# Altium schematic symbol library CPU_NXP_IMX.SchLib: 18 symbols (part 5 of 5)
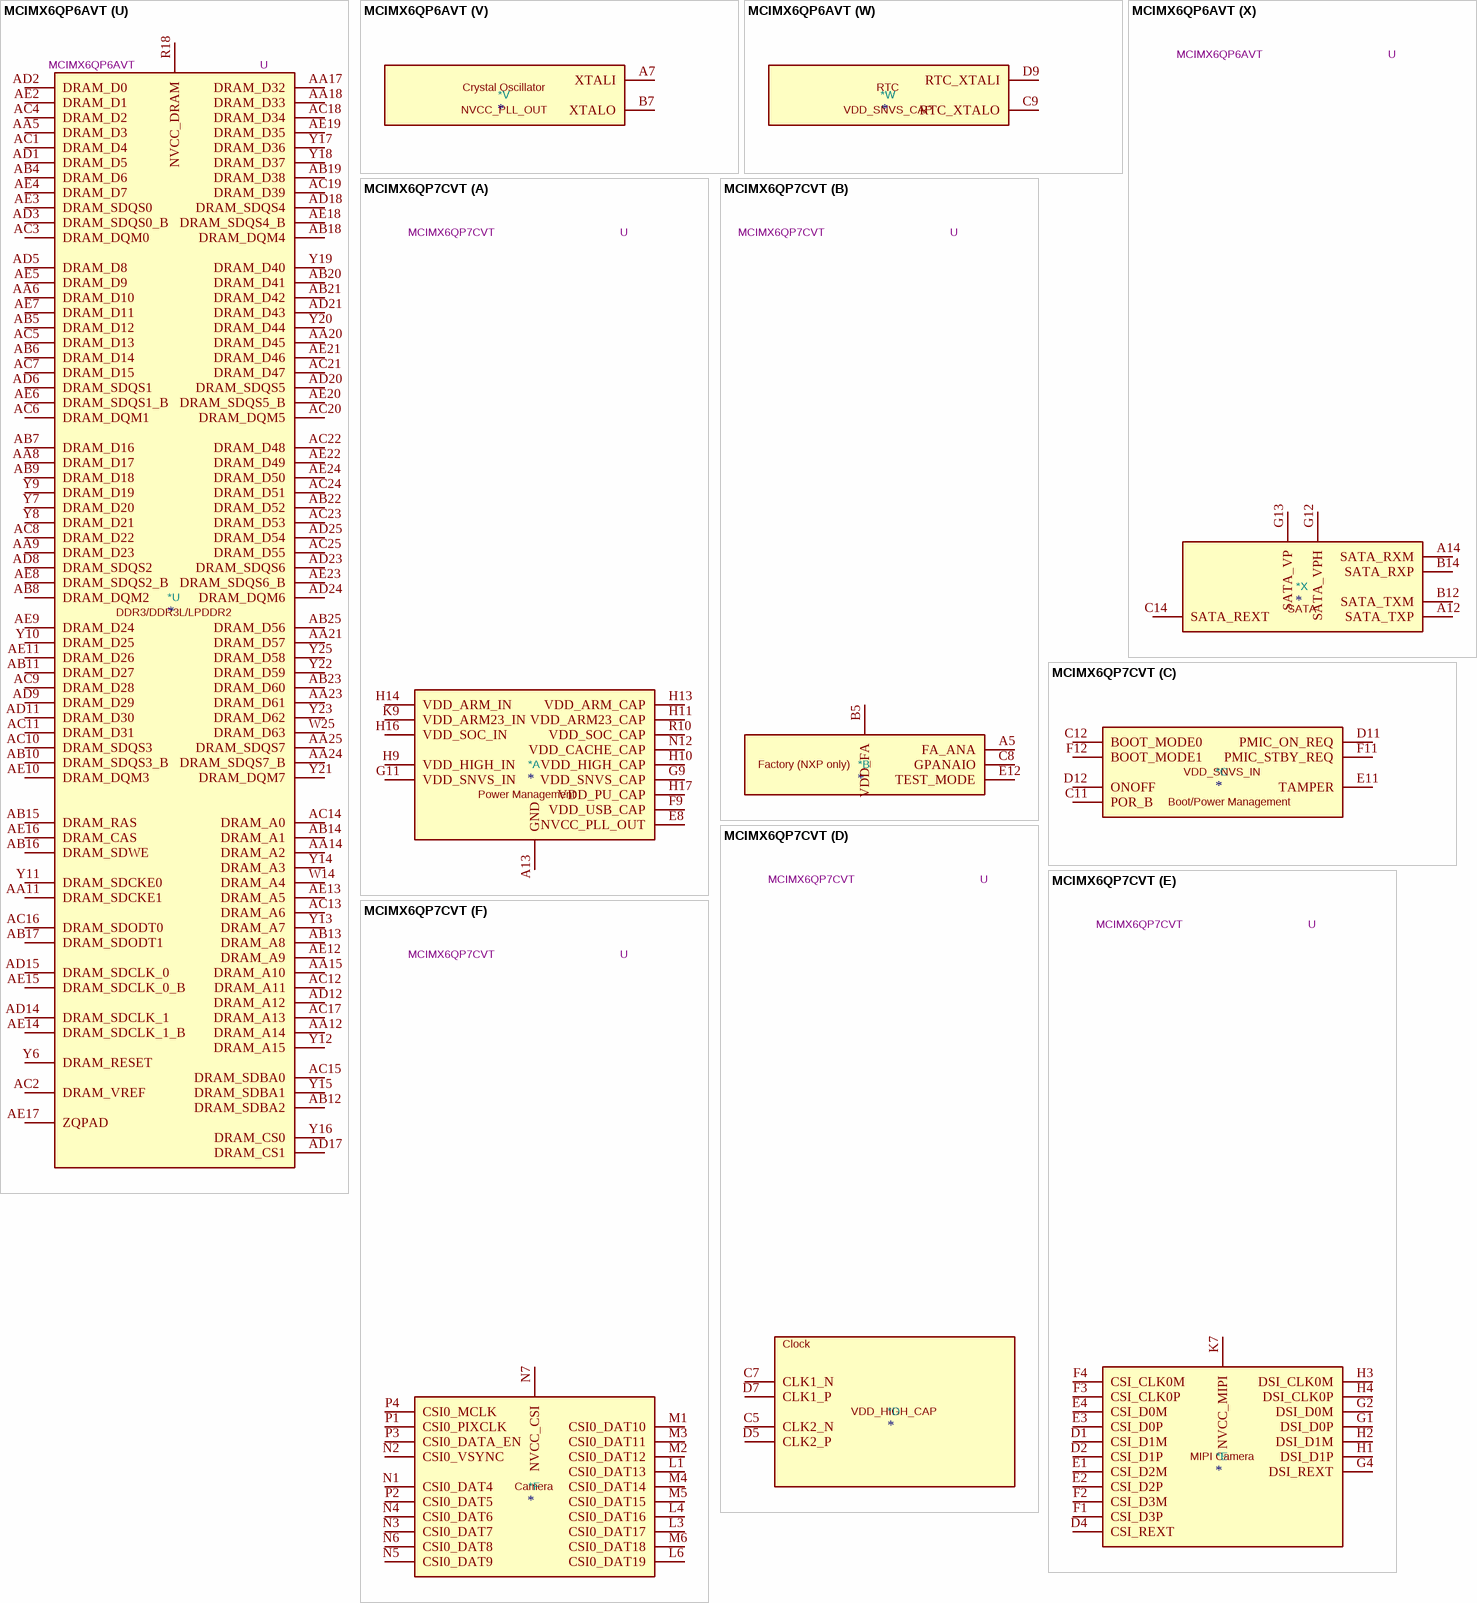
[diagram p58: symbols MCIMX6QP6AVT to MCIMX6QP7CVT]

## MCIMX6QP6AVT
designator *  value MCIMX6QP6AVT  Reference: U
ki_keywords: Quad-Core ARM Cortex A9 SOC Automotive; ki_description: i.MX 6QuadPlus Automotive and Infotainment Application Processor, BGA-624; ki_fp_filters: BGA*21.0x21.0mm*P0.8mm*; Footprint: Package_BGA:BGA-624_21.0x21.0mm_Layout25x25_P0.8mm; Datasheet: https://www.nxp.com/docs/en/data-sheet/IMX6DQPAEC.pdf
part A pins: A4 GND hidden, A8 GND hidden, A13 GND, A25 GND hidden, AA7 GND hidden, AA10 GND hidden, AA13 GND hidden, AA16 GND hidden, AA19 GND hidden, AA22 GND hidden, AB3 GND hidden, AB24 GND hidden, AD4 GND hidden, AD7 GND hidden, AD10 GND hidden, AD13 GND hidden, AD16 GND hidden, AD19 GND hidden, AD22 GND hidden, AE1 GND hidden, AE25 GND hidden, B4 GND hidden, C1 GND hidden, C4 GND hidden, C6 GND hidden, C10 GND hidden, D3 GND hidden, D6 GND hidden, D8 GND hidden, E5 GND hidden, E6 GND hidden, E7 GND hidden, E8 NVCC_PLL_OUT, F5 GND hidden, F6 GND hidden, F7 GND hidden, F8 GND hidden, F9 VDD_USB_CAP, G3 GND hidden, G9 VDD_SNVS_CAP, G10 GND hidden, G11 VDD_SNVS_IN, G19 GND hidden, H8 GND hidden, H9 VDD_HIGH_IN, H10 VDD_HIGH_CAP, H11 VDD_ARM23_CAP, H12 GND hidden, H13 VDD_ARM_CAP, H14 VDD_ARM_IN, H15 GND hidden, H16 VDD_SOC_IN, H17 VDD_PU_CAP, H18 GND hidden, J2 GND hidden, J8 GND hidden, J9 VDD_HIGH_IN hidden, J10 VDD_HIGH_CAP hidden, J11 VDD_ARM23_CAP hidden, J12 GND hidden, J13 VDD_ARM_CAP hidden, J14 VDD_ARM_IN hidden, J15 GND hidden, J16 VDD_SOC_IN hidden, J17 VDD_PU_CAP hidden, J18 GND hidden, K8 GND hidden, K9 VDD_ARM23_IN, K10 GND hidden, K11 VDD_ARM23_CAP hidden, K12 GND hidden, K13 VDD_ARM_CAP hidden, K14 VDD_ARM_IN hidden, K15 GND hidden, K16 VDD_SOC_IN hidden, K17 VDD_PU_CAP hidden, K18 GND hidden, L2 GND hidden, L5 GND hidden, L8 GND hidden, L9 VDD_ARM23_IN hidden, L10 GND hidden, L11 VDD_ARM23_CAP hidden, L12 GND hidden, L13 VDD_ARM_CAP hidden, L14 VDD_ARM_IN hidden, L15 GND hidden, L16 VDD_SOC_IN hidden, L17 VDD_PU_CAP hidden, L18 GND hidden, M8 GND hidden, M9 VDD_ARM23_IN hidden, M10 GND hidden, M11 VDD_ARM23_CAP hidden, M12 GND hidden, M13 VDD_ARM_CAP hidden, M14 VDD_ARM_IN hidden, M15 GND hidden, M16 VDD_SOC_IN hidden, M17 VDD_PU_CAP hidden, M18 GND hidden, N8 GND hidden, N9 VDD_ARM23_IN hidden, N10 GND hidden, N11 VDD_ARM23_CAP hidden, N12 VDD_CACHE_CAP, N13 VDD_ARM_CAP hidden, N14 VDD_ARM_IN hidden, N15 GND hidden, N16 VDD_SOC_IN hidden, N17 VDD_PU_CAP hidden, N18 GND hidden, P8 GND hidden, P9 VDD_ARM23_IN hidden, P10 GND hidden, P11 VDD_ARM23_CAP hidden, P12 GND hidden, P13 VDD_ARM_CAP hidden, P14 VDD_ARM_IN hidden, P15 GND hidden, P16 VDD_SOC_IN hidden, P17 VDD_PU_CAP hidden, P18 GND hidden, R8 GND hidden, R9 VDD_ARM23_IN hidden, R10 VDD_SOC_CAP, R11 VDD_ARM23_CAP hidden, R12 GND hidden, R13 VDD_ARM_CAP hidden, R14 VDD_ARM_IN hidden, R15 GND hidden, R16 VDD_SOC_IN hidden, R17 GND hidden, T8 GND hidden, T9 VDD_ARM23_IN hidden, T10 VDD_SOC_CAP hidden, T11 GND hidden, T12 GND hidden, T13 VDD_SOC_CAP hidden, T14 VDD_SOC_CAP hidden, T15 GND hidden, T16 VDD_SOC_IN hidden, T17 GND hidden, T19 GND hidden, U8 GND hidden, U9 VDD_ARM23_IN hidden, U10 VDD_SOC_CAP hidden, U11 GND hidden, U12 GND hidden, U13 VDD_SOC_CAP hidden, U14 VDD_SOC_CAP hidden, U15 GND hidden, U16 VDD_SOC_IN hidden, U17 GND hidden, U19 GND hidden, V8 GND hidden, V19 GND hidden, W3 GND hidden, W7 GND hidden, W8 GND hidden, W9 GND hidden, W10 GND hidden, W11 GND hidden, W12 GND hidden, W13 GND hidden, W15 GND hidden, W16 GND hidden, W17 GND hidden, W18 GND hidden, W19 GND hidden, Y5 GND hidden, Y24 GND hidden
part B pins: A5 FA_ANA, B5 VDD_FA, C8 GPANAIO, E12 TEST_MODE
part C pins: C11 POR_B, C12 BOOT_MODE0, D11 PMIC_ON_REQ, D12 ONOFF, E11 TAMPER, F11 PMIC_STBY_REQ, F12 BOOT_MODE1
part D pins: A9 MLB_SN, A10 MLB_DP, A11 MLB_CN, B9 MLB_SP, B10 MLB_DN, B11 MLB_CP, C5 CLK2_N, C7 CLK1_N, D5 CLK2_P, D7 CLK1_P
part E pins: D1 CSI_D1M, D2 CSI_D1P, D4 CSI_REXT, E1 CSI_D2M, E2 CSI_D2P, E3 CSI_D0P, E4 CSI_D0M, F1 CSI_D3P, F2 CSI_D3M, F3 CSI_CLK0P, F4 CSI_CLK0M, G1 DSI_D0P, G2 DSI_D0M, G4 DSI_REXT, H1 DSI_D1P, H2 DSI_D1M, H3 DSI_CLK0M, H4 DSI_CLK0P, K7 NVCC_MIPI
part F pins: L1 CSI0_DAT13, L3 CSI0_DAT17, L4 CSI0_DAT16, L6 CSI0_DAT19, M1 CSI0_DAT10, M2 CSI0_DAT12, M3 CSI0_DAT11, M4 CSI0_DAT14, M5 CSI0_DAT15, M6 CSI0_DAT18, N1 CSI0_DAT4, N2 CSI0_VSYNC, N3 CSI0_DAT7, N4 CSI0_DAT6, N5 CSI0_DAT9, N6 CSI0_DAT8, N7 NVCC_CSI, P1 CSI0_PIXCLK, P2 CSI0_DAT5, P3 CSI0_DATA_EN, P4 CSI0_MCLK
part G pins: N19 DI0_DISP_CLK, N20 DI0_PIN3, N21 DI0_PIN15, N25 DI0_PIN2, P19 NVCC_LCD, P20 DISP0_DAT4, P21 DISP0_DAT3, P22 DISP0_DAT1, P23 DISP0_DAT2, P24 DISP0_DAT0, P25 DI0_PIN4, R20 DISP0_DAT13, R21 DISP0_DAT10, R22 DISP0_DAT8, R23 DISP0_DAT6, R24 DISP0_DAT7, R25 DISP0_DAT5, T20 DISP0_DAT21, T21 DISP0_DAT16, T22 DISP0_DAT15, T23 DISP0_DAT11, T24 DISP0_DAT12, T25 DISP0_DAT9, U22 DISP0_DAT20, U23 DISP0_DAT19, U24 DISP0_DAT17, U25 DISP0_DAT14, V24 DISP0_DAT22, V25 DISP0_DAT18, W24 DISP0_DAT23
part H pins: C25 EIM_D16, D24 EIM_D18, D25 EIM_D23, E22 EIM_EB2, E23 EIM_D22, E24 EIM_D26, E25 EIM_D27, F21 EIM_D17, F22 EIM_D24, F23 EIM_EB3, F24 EIM_A22, F25 EIM_A24, G20 EIM_D20, G21 EIM_D19, G22 EIM_D25, G23 EIM_D28, G24 EIM_A17, G25 EIM_A19, H19 EIM_A25, H20 EIM_D21, H21 EIM_D31, H22 EIM_A20, H23 EIM_A21, H24 EIM_CS0, H25 EIM_A16, J19 EIM_D29, J20 EIM_D30, J21 EIM_A23, J22 EIM_A18, J23 EIM_CS1, J24 EIM_OE, J25 EIM_DA1, K19 NVCC_EIM0, K20 EIM_RW, K21 EIM_EB0, K22 EIM_LBA, K23 EIM_EB1, K24 EIM_DA3, K25 EIM_DA6, L19 NVCC_EIM1, L20 EIM_DA0, L21 EIM_DA2, L22 EIM_DA4, L23 EIM_DA5, L24 EIM_DA8, L25 EIM_DA7, M19 NVCC_EIM2, M20 EIM_DA11, M21 EIM_DA9, M22 EIM_DA10, M23 EIM_DA13, M24 EIM_DA12, M25 EIM_WAIT, N22 EIM_BCLK, N23 EIM_DA14, N24 EIM_DA15
part I pins: R19 NVCC_ENET, U20 ENET_TXD0, U21 ENET_CRS_DV, V20 ENET_MDC, V21 ENET_TX_EN, V22 ENET_REF_CLK, V23 ENET_MDIO, W20 ENET_TXD1, W21 ENET_RXD0, W22 ENET_RXD1, W23 ENET_RX_ER
part J pins: P5 GPIO_19, P6 GPIO_18, P7 NVCC_GPIO, R1 GPIO_17, R2 GPIO_16, R3 GPIO_7, R4 GPIO_5, R5 GPIO_8, R6 GPIO_4, R7 GPIO_3, T1 GPIO_2, T2 GPIO_9, T3 GPIO_6, T4 GPIO_1, T5 GPIO_0, T6 KEY_COL4, T7 KEY_ROW3, U5 KEY_COL3, U6 KEY_ROW1, U7 KEY_COL1, V5 KEY_ROW4, V6 KEY_ROW0, W4 KEY_ROW2, W5 KEY_COL0, W6 KEY_COL2
part K pins: J1 HDMI_REF, J3 HDMI_D1M, J4 HDMI_D1P, J5 HDMI_CLKM, J6 HDMI_CLKP, K1 HDMI_HPD, K2 HDMI_DDCCEC, K3 HDMI_D2M, K4 HDMI_D2P, K5 HDMI_D0M, K6 HDMI_D0P, L7 HDMI_VP, M7 HDMI_VPH
part L pins: C2 JTAG_TRSTB, C3 JTAG_TMS, G5 JTAG_TDI, G6 JTAG_TDO, H5 JTAG_TCK, H6 JTAG_MOD, J7 NVCC_JTAG
part M pins: AA1 LVDS1_TX1_P, AA2 LVDS1_TX1_N, AA3 LVDS1_TX3_N, AA4 LVDS1_TX3_P, AB1 LVDS1_TX2_N, AB2 LVDS1_TX2_P, U1 LVDS0_TX0_P, U2 LVDS0_TX0_N, U3 LVDS0_TX1_P, U4 LVDS0_TX1_N, V1 LVDS0_TX2_P, V2 LVDS0_TX2_N, V3 LVDS0_CLK_P, V4 LVDS0_CLK_N, V7 NVCC_LVDS2P5, W1 LVDS0_TX3_P, W2 LVDS0_TX3_N, Y1 LVDS1_TX0_N, Y2 LVDS1_TX0_P, Y3 LVDS1_CLK_N, Y4 LVDS1_CLK_P
part N pins: A16 NANDF_ALE, A17 NANDF_CS2, A18 NANDF_D0, A19 NANDF_D4, A20 SD4_DAT3, B16 NANDF_RB0, B17 SD4_CMD, B18 NANDF_D5, B19 SD4_DAT1, B20 SD4_DAT6, C15 NANDF_CLE, C16 NANDF_CS1, C17 NANDF_D1, C18 NANDF_D7, C19 SD4_DAT5, D16 NANDF_CS3, D17 NANDF_D3, D18 SD4_DAT0, D19 SD4_DAT7, E15 NANDF_WP_B, E16 SD4_CLK, E17 NANDF_D6, E18 SD4_DAT4, F15 NANDF_CS0, F16 NANDF_D2, F17 SD4_DAT2, G15 NVCC_NANDF
part O pins: A2 PCIE_REXT, A3 PCIE_TXM, B1 PCIE_RXM, B2 PCIE_RXP, B3 PCIE_TXP, G7 PCIE_VPH, G8 PCIE_VPTX, H7 PCIE_VP
part P pins: A6 USB_OTG_DP, B6 USB_OTG_DN, B8 USB_OTG_CHD_B, D10 USB_H1_VBUS, E9 USB_OTG_VBUS, E10 USB_H1_DP, F10 USB_H1_DN
part Q pins: A24 RGMII_TD3, B23 RGMII_RD1, B24 RGMII_RD2, B25 RGMII_RXC, C22 RGMII_TD0, C23 RGMII_TX_CTL, C24 RGMII_RD0, D21 RGMII_TXC, D22 RGMII_RX_CTL, D23 RGMII_RD3, E21 RGMII_TD2, F20 RGMII_TD1, G18 NVCC_RGMII
part R pins: A21 SD1_DAT0, B21 SD1_CMD, C20 SD1_DAT1, D20 SD1_CLK, E19 SD1_DAT2, F18 SD1_DAT3, G16 NVCC_SD1
part S pins: A22 SD2_DAT0, A23 SD2_DAT2, B22 SD2_DAT3, C21 SD2_CLK, E20 SD2_DAT1, F19 SD2_CMD, G17 NVCC_SD2
part T pins: A15 SD3_DAT2, B13 SD3_CMD, B15 SD3_DAT3, C13 SD3_DAT5, D13 SD3_DAT4, D14 SD3_CLK, D15 SD3_RST, E13 SD3_DAT6, E14 SD3_DAT0, F13 SD3_DAT7, F14 SD3_DAT1, G14 NVCC_SD3
part U pins: AA5 DRAM_D3, AA6 DRAM_D10, AA8 DRAM_D17, AA9 DRAM_D23, AA11 DRAM_SDCKE1, AA12 DRAM_A14, AA14 DRAM_A2, AA15 DRAM_A10, AA17 DRAM_D32, AA18 DRAM_D33, AA20 DRAM_D45, AA21 DRAM_D57, AA23 DRAM_D61, AA24 DRAM_SDQS7_B, AA25 DRAM_SDQS7, AB4 DRAM_D6, AB5 DRAM_D12, AB6 DRAM_D14, AB7 DRAM_D16, AB8 DRAM_DQM2, AB9 DRAM_D18, AB10 DRAM_SDQS3_B, AB11 DRAM_D27, AB12 DRAM_SDBA2, AB13 DRAM_A8, AB14 DRAM_A1, AB15 DRAM_RAS, AB16 DRAM_SDWE, AB17 DRAM_SDODT1, AB18 DRAM_DQM4, AB19 DRAM_D38, AB20 DRAM_D41, AB21 DRAM_D42, AB22 DRAM_D52, AB23 DRAM_D60, AB25 DRAM_D56, AC1 DRAM_D4, AC2 DRAM_VREF, AC3 DRAM_DQM0, AC4 DRAM_D2, AC5 DRAM_D13, AC6 DRAM_DQM1, AC7 DRAM_D15, AC8 DRAM_D22, AC9 DRAM_D28, AC10 DRAM_SDQS3, AC11 DRAM_D31, AC12 DRAM_A11, AC13 DRAM_A6, AC14 DRAM_A0, AC15 DRAM_SDBA0, AC16 DRAM_SDODT0, AC17 DRAM_A13, AC18 DRAM_D34, AC19 DRAM_D39, AC20 DRAM_DQM5, AC21 DRAM_D47, AC22 DRAM_D48, AC23 DRAM_D53, AC24 DRAM_D51, AC25 DRAM_D55, AD1 DRAM_D5, AD2 DRAM_D0, AD3 DRAM_SDQS0_B, AD5 DRAM_D8, AD6 DRAM_SDQS1, AD8 DRAM_SDQS2, AD9 DRAM_D29, AD11 DRAM_D30, AD12 DRAM_A12, AD14 DRAM_SDCLK_1, AD15 DRAM_SDCLK_0, AD17 DRAM_CS1, AD18 DRAM_SDQS4, AD20 DRAM_SDQS5, AD21 DRAM_D43, AD23 DRAM_SDQS6, AD24 DRAM_DQM6, AD25 DRAM_D54, AE2 DRAM_D1, AE3 DRAM_SDQS0, AE4 DRAM_D7, AE5 DRAM_D9, AE6 DRAM_SDQS1_B, AE7 DRAM_D11, AE8 DRAM_SDQS2_B, AE9 DRAM_D24, AE10 DRAM_DQM3, AE11 DRAM_D26, AE12 DRAM_A9, AE13 DRAM_A5, AE14 DRAM_SDCLK_1_B, AE15 DRAM_SDCLK_0_B, AE16 DRAM_CAS, AE17 ZQPAD, AE18 DRAM_SDQS4_B, AE19 DRAM_D35, AE20 DRAM_SDQS5_B, AE21 DRAM_D46, AE22 DRAM_D49, AE23 DRAM_SDQS6_B, AE24 DRAM_D50, R18 NVCC_DRAM, T18 NVCC_DRAM hidden, U18 NVCC_DRAM hidden, V9 NVCC_DRAM hidden, V10 NVCC_DRAM hidden, V11 NVCC_DRAM hidden, V12 NVCC_DRAM hidden, V13 NVCC_DRAM hidden, V14 NVCC_DRAM hidden, V15 NVCC_DRAM hidden, V16 NVCC_DRAM hidden, V17 NVCC_DRAM hidden, V18 NVCC_DRAM hidden, W14 DRAM_A4, W25 DRAM_D63, Y6 DRAM_RESET, Y7 DRAM_D20, Y8 DRAM_D21, Y9 DRAM_D19, Y10 DRAM_D25, Y11 DRAM_SDCKE0, Y12 DRAM_A15, Y13 DRAM_A7, Y14 DRAM_A3, Y15 DRAM_SDBA1, Y16 DRAM_CS0, Y17 DRAM_D36, Y18 DRAM_D37, Y19 DRAM_D40, Y20 DRAM_D44, Y21 DRAM_DQM7, Y22 DRAM_D59, Y23 DRAM_D62, Y25 DRAM_D58
part V pins: A7 XTALI, B7 XTALO
part W pins: C9 RTC_XTALO, D9 RTC_XTALI
part X pins: A12 SATA_TXP, A14 SATA_RXM, B12 SATA_TXM, B14 SATA_RXP, C14 SATA_REXT, G12 SATA_VPH, G13 SATA_VP
part A text: Power Management
part B text: Factory (NXP only)
part C text: Boot/Power Management
part D text: Clock; MediaLB
part E text: MIPI Camera
part F text: Camera
part G text: LCD Display
part H text: External memory
part I text: 10/100-Mbit Ethernet
part J text: GPIO
part K text: HDMI Display
part L text: JTAG Debug
part M text: LVDS Display
part N text: NAND Flash; SD/MMC
part O text: PCIe 2.0
part P text: HS USB2.0 Host; HS USB2.0 OTG
part Q text: Gigabit Ethernet
part R text: SD/MMC
part S text: SD/MMC
part T text: SD/MMC
part U text: DDR3/DDR3L/LPDDR2
part V text: Crystal Oscillator
part W text: RTC
part X text: SATA

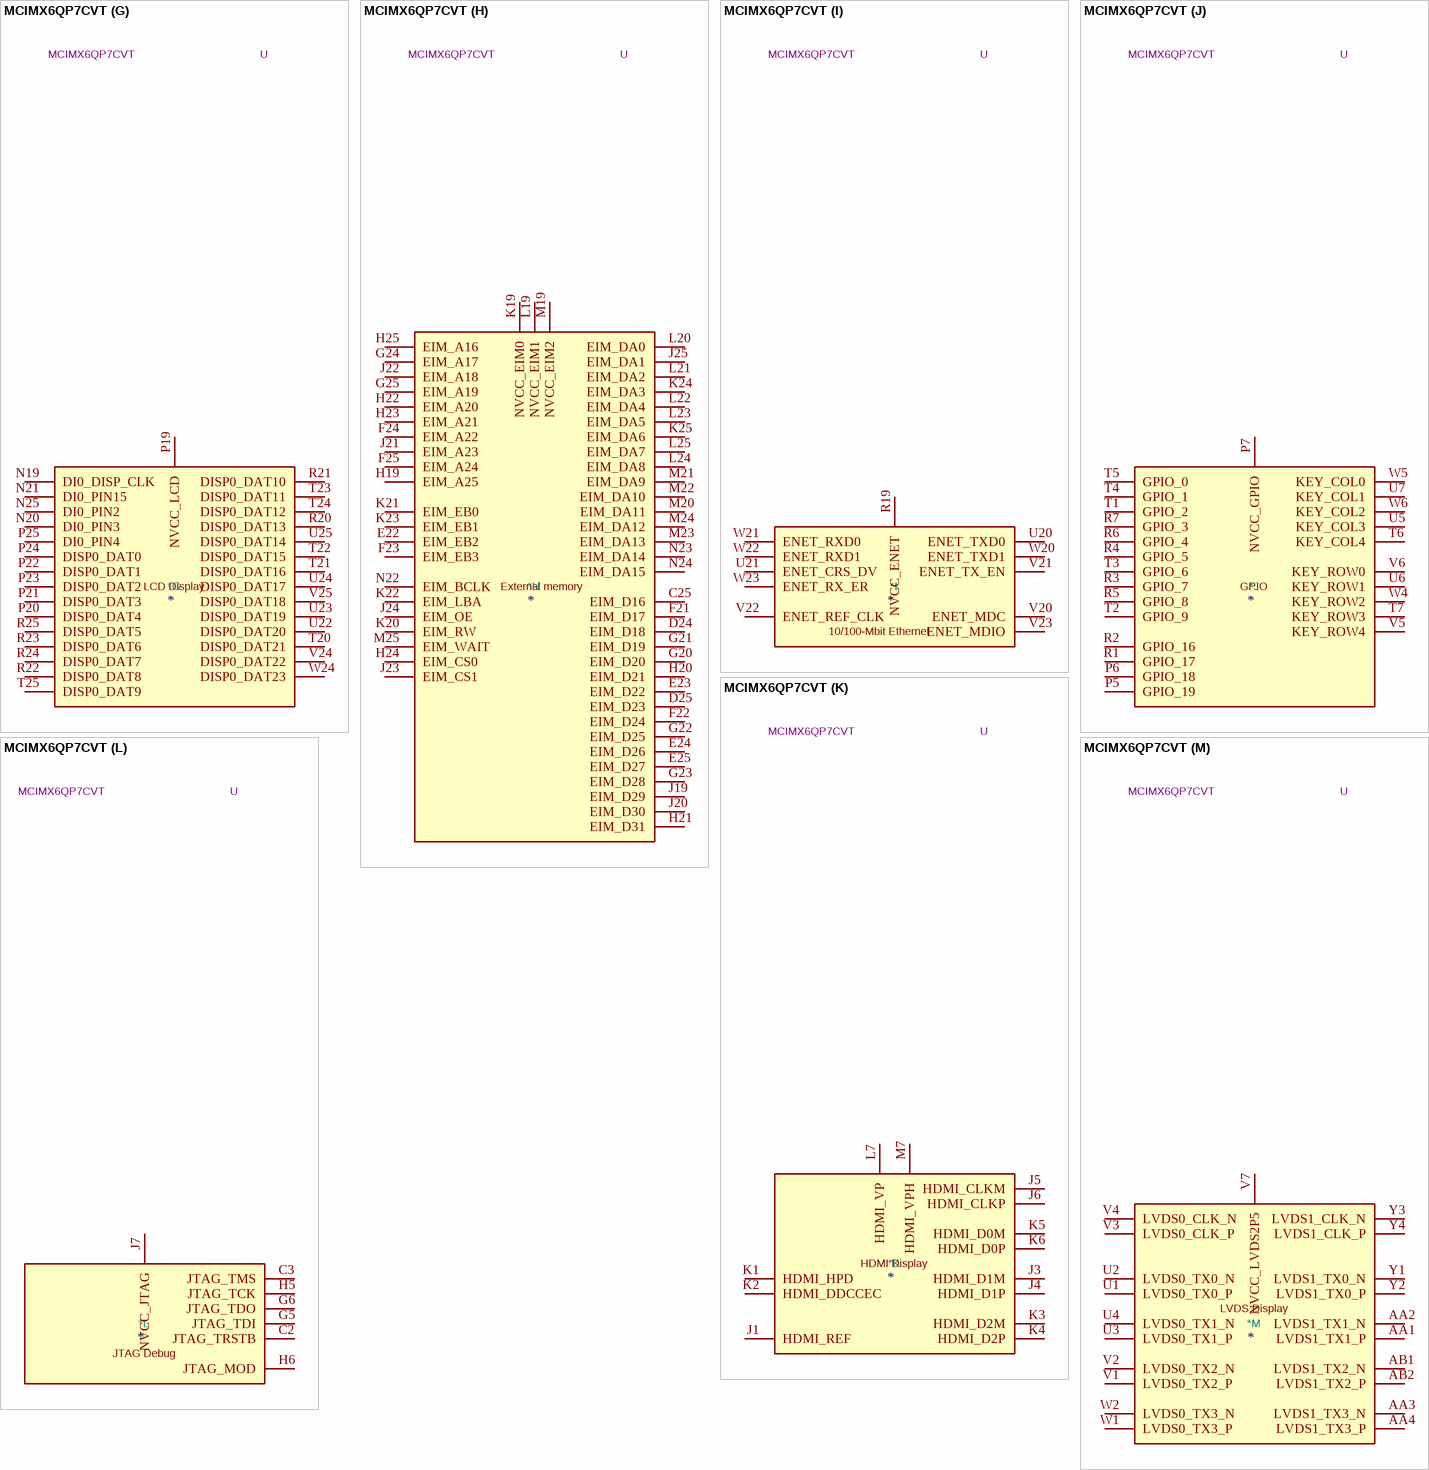
[diagram p52: symbol MCIMX6QP7CVT]

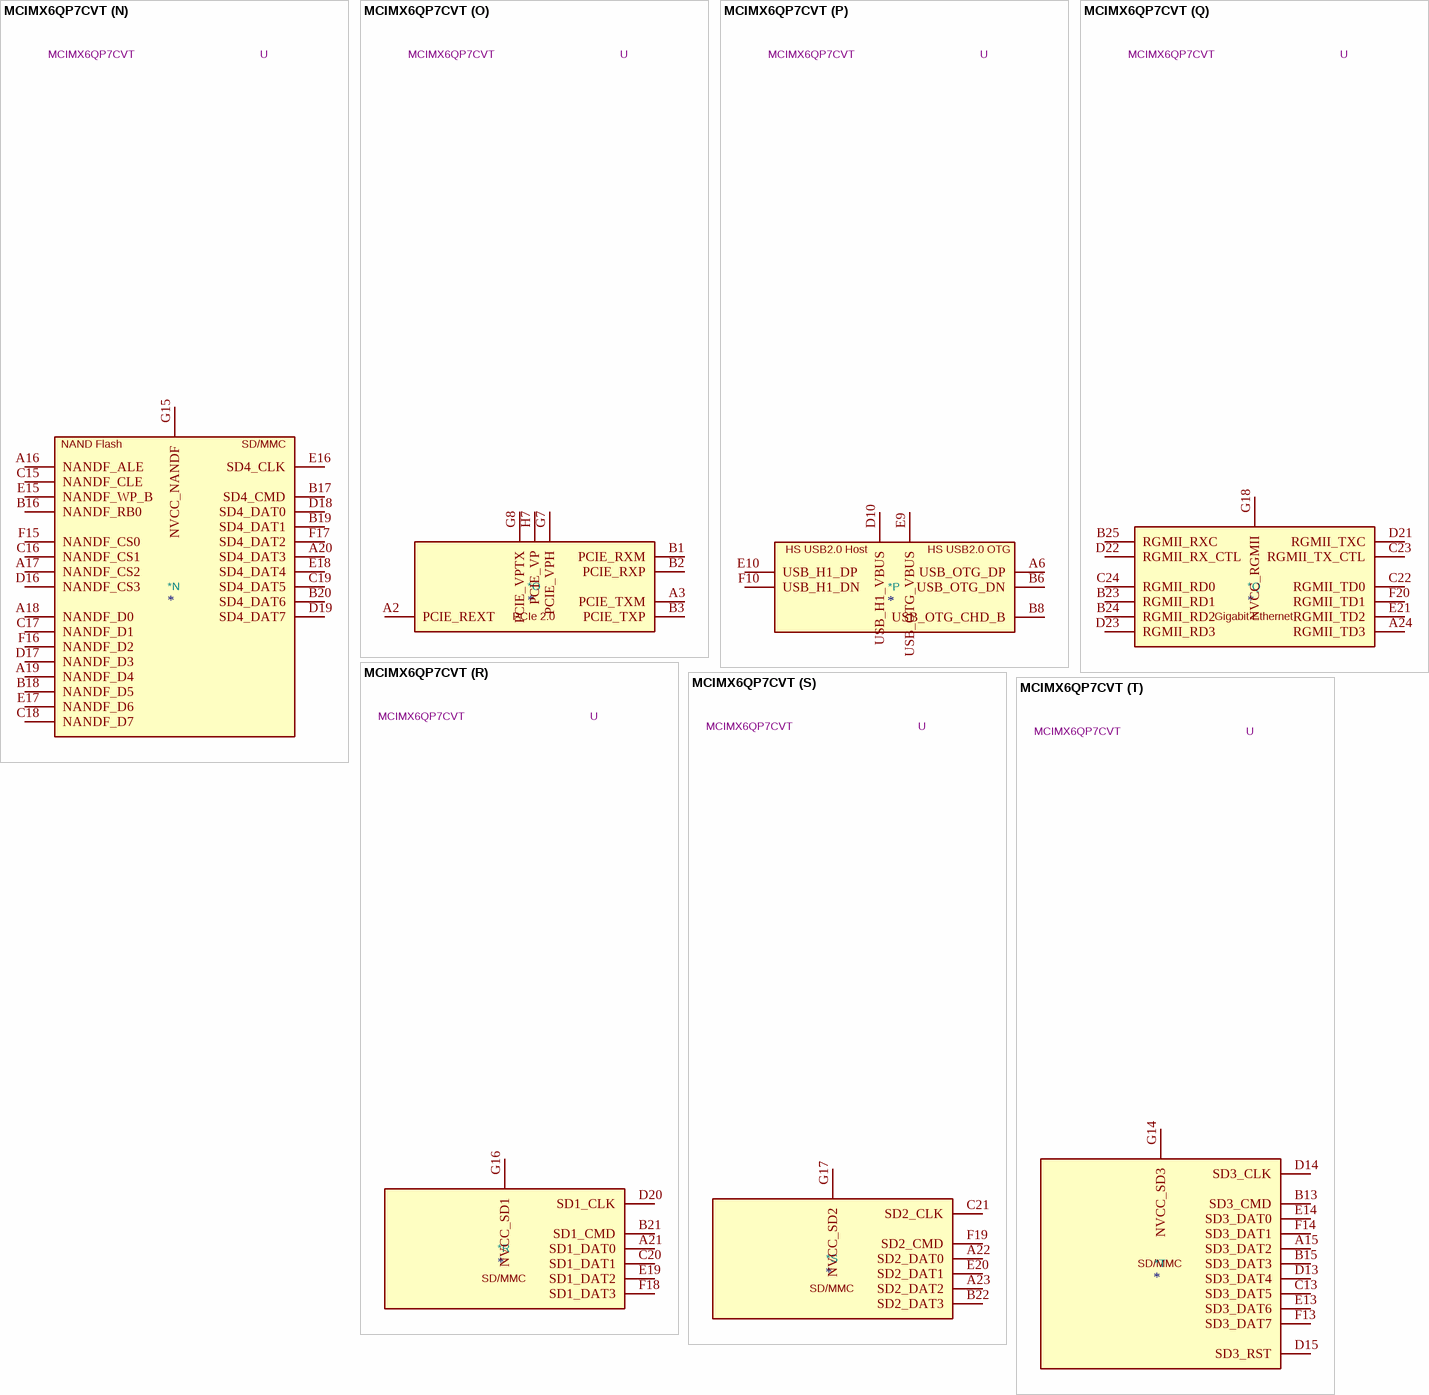
[diagram p53: symbol MCIMX6QP7CVT]

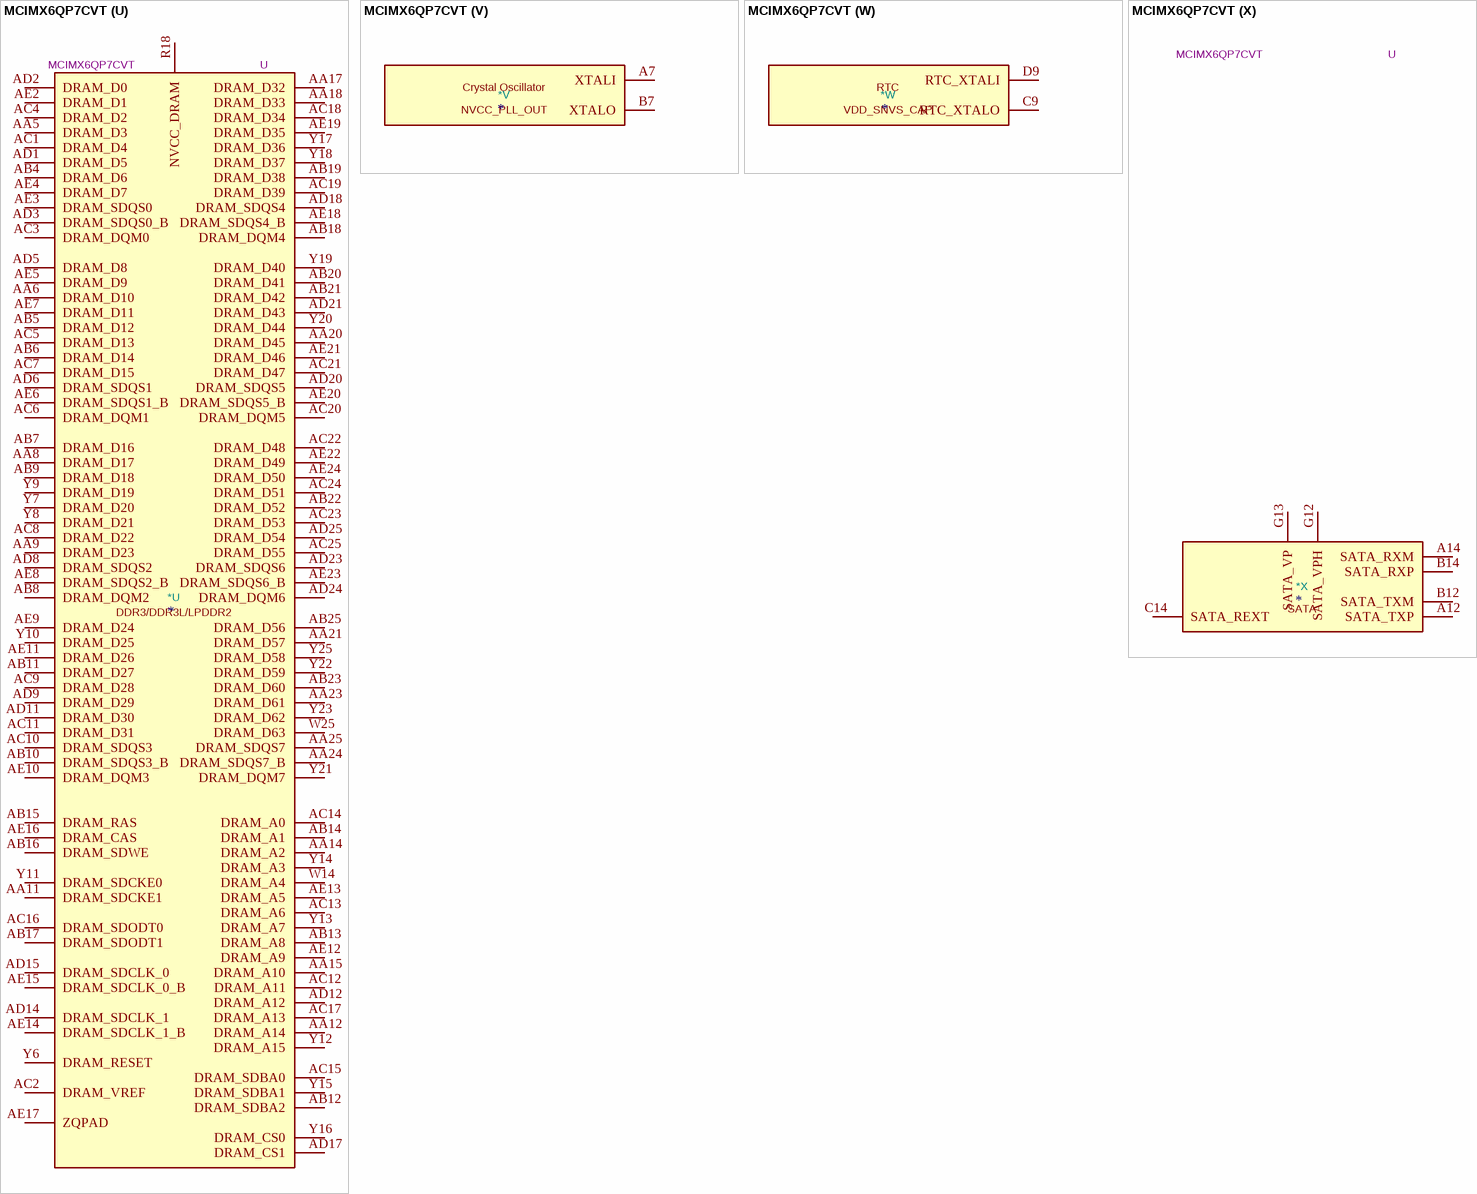
[diagram p54: symbol MCIMX6QP7CVT]

## MCIMX6QP7CVT
designator *  value MCIMX6QP7CVT  Reference: U
ki_keywords: Quad-Core ARM Cortex A9 SOC Industrial; ki_description: i.MX 6QuadPlus Application Processor for Industrial Products, BGA-624; ki_fp_filters: BGA*21.0x21.0mm*P0.8mm*; Footprint: Package_BGA:BGA-624_21.0x21.0mm_Layout25x25_P0.8mm; Datasheet: https://www.nxp.com/docs/en/data-sheet/IMX6DQPIEC.pdf
part A pins: A4 GND hidden, A8 GND hidden, A13 GND, A25 GND hidden, AA7 GND hidden, AA10 GND hidden, AA13 GND hidden, AA16 GND hidden, AA19 GND hidden, AA22 GND hidden, AB3 GND hidden, AB24 GND hidden, AD4 GND hidden, AD7 GND hidden, AD10 GND hidden, AD13 GND hidden, AD16 GND hidden, AD19 GND hidden, AD22 GND hidden, AE1 GND hidden, AE25 GND hidden, B4 GND hidden, C1 GND hidden, C4 GND hidden, C6 GND hidden, C10 GND hidden, D3 GND hidden, D6 GND hidden, D8 GND hidden, E5 GND hidden, E6 GND hidden, E7 GND hidden, E8 NVCC_PLL_OUT, F5 GND hidden, F6 GND hidden, F7 GND hidden, F8 GND hidden, F9 VDD_USB_CAP, G3 GND hidden, G9 VDD_SNVS_CAP, G10 GND hidden, G11 VDD_SNVS_IN, G19 GND hidden, H8 GND hidden, H9 VDD_HIGH_IN, H10 VDD_HIGH_CAP, H11 VDD_ARM23_CAP, H12 GND hidden, H13 VDD_ARM_CAP, H14 VDD_ARM_IN, H15 GND hidden, H16 VDD_SOC_IN, H17 VDD_PU_CAP, H18 GND hidden, J2 GND hidden, J8 GND hidden, J9 VDD_HIGH_IN hidden, J10 VDD_HIGH_CAP hidden, J11 VDD_ARM23_CAP hidden, J12 GND hidden, J13 VDD_ARM_CAP hidden, J14 VDD_ARM_IN hidden, J15 GND hidden, J16 VDD_SOC_IN hidden, J17 VDD_PU_CAP hidden, J18 GND hidden, K8 GND hidden, K9 VDD_ARM23_IN, K10 GND hidden, K11 VDD_ARM23_CAP hidden, K12 GND hidden, K13 VDD_ARM_CAP hidden, K14 VDD_ARM_IN hidden, K15 GND hidden, K16 VDD_SOC_IN hidden, K17 VDD_PU_CAP hidden, K18 GND hidden, L2 GND hidden, L5 GND hidden, L8 GND hidden, L9 VDD_ARM23_IN hidden, L10 GND hidden, L11 VDD_ARM23_CAP hidden, L12 GND hidden, L13 VDD_ARM_CAP hidden, L14 VDD_ARM_IN hidden, L15 GND hidden, L16 VDD_SOC_IN hidden, L17 VDD_PU_CAP hidden, L18 GND hidden, M8 GND hidden, M9 VDD_ARM23_IN hidden, M10 GND hidden, M11 VDD_ARM23_CAP hidden, M12 GND hidden, M13 VDD_ARM_CAP hidden, M14 VDD_ARM_IN hidden, M15 GND hidden, M16 VDD_SOC_IN hidden, M17 VDD_PU_CAP hidden, M18 GND hidden, N8 GND hidden, N9 VDD_ARM23_IN hidden, N10 GND hidden, N11 VDD_ARM23_CAP hidden, N12 VDD_CACHE_CAP, N13 VDD_ARM_CAP hidden, N14 VDD_ARM_IN hidden, N15 GND hidden, N16 VDD_SOC_IN hidden, N17 VDD_PU_CAP hidden, N18 GND hidden, P8 GND hidden, P9 VDD_ARM23_IN hidden, P10 GND hidden, P11 VDD_ARM23_CAP hidden, P12 GND hidden, P13 VDD_ARM_CAP hidden, P14 VDD_ARM_IN hidden, P15 GND hidden, P16 VDD_SOC_IN hidden, P17 VDD_PU_CAP hidden, P18 GND hidden, R8 GND hidden, R9 VDD_ARM23_IN hidden, R10 VDD_SOC_CAP, R11 VDD_ARM23_CAP hidden, R12 GND hidden, R13 VDD_ARM_CAP hidden, R14 VDD_ARM_IN hidden, R15 GND hidden, R16 VDD_SOC_IN hidden, R17 GND hidden, T8 GND hidden, T9 VDD_ARM23_IN hidden, T10 VDD_SOC_CAP hidden, T11 GND hidden, T12 GND hidden, T13 VDD_SOC_CAP hidden, T14 VDD_SOC_CAP hidden, T15 GND hidden, T16 VDD_SOC_IN hidden, T17 GND hidden, T19 GND hidden, U8 GND hidden, U9 VDD_ARM23_IN hidden, U10 VDD_SOC_CAP hidden, U11 GND hidden, U12 GND hidden, U13 VDD_SOC_CAP hidden, U14 VDD_SOC_CAP hidden, U15 GND hidden, U16 VDD_SOC_IN hidden, U17 GND hidden, U19 GND hidden, V8 GND hidden, V19 GND hidden, W3 GND hidden, W7 GND hidden, W8 GND hidden, W9 GND hidden, W10 GND hidden, W11 GND hidden, W12 GND hidden, W13 GND hidden, W15 GND hidden, W16 GND hidden, W17 GND hidden, W18 GND hidden, W19 GND hidden, Y5 GND hidden, Y24 GND hidden
part B pins: A5 FA_ANA, B5 VDD_FA, C8 GPANAIO, E12 TEST_MODE
part C pins: C11 POR_B, C12 BOOT_MODE0, D11 PMIC_ON_REQ, D12 ONOFF, E11 TAMPER, F11 PMIC_STBY_REQ, F12 BOOT_MODE1
part D pins: A9 NC hidden, A10 NC hidden, A11 NC hidden, B9 NC hidden, B10 NC hidden, B11 NC hidden, C5 CLK2_N, C7 CLK1_N, D5 CLK2_P, D7 CLK1_P
part E pins: D1 CSI_D1M, D2 CSI_D1P, D4 CSI_REXT, E1 CSI_D2M, E2 CSI_D2P, E3 CSI_D0P, E4 CSI_D0M, F1 CSI_D3P, F2 CSI_D3M, F3 CSI_CLK0P, F4 CSI_CLK0M, G1 DSI_D0P, G2 DSI_D0M, G4 DSI_REXT, H1 DSI_D1P, H2 DSI_D1M, H3 DSI_CLK0M, H4 DSI_CLK0P, K7 NVCC_MIPI
part F pins: L1 CSI0_DAT13, L3 CSI0_DAT17, L4 CSI0_DAT16, L6 CSI0_DAT19, M1 CSI0_DAT10, M2 CSI0_DAT12, M3 CSI0_DAT11, M4 CSI0_DAT14, M5 CSI0_DAT15, M6 CSI0_DAT18, N1 CSI0_DAT4, N2 CSI0_VSYNC, N3 CSI0_DAT7, N4 CSI0_DAT6, N5 CSI0_DAT9, N6 CSI0_DAT8, N7 NVCC_CSI, P1 CSI0_PIXCLK, P2 CSI0_DAT5, P3 CSI0_DATA_EN, P4 CSI0_MCLK
part G pins: N19 DI0_DISP_CLK, N20 DI0_PIN3, N21 DI0_PIN15, N25 DI0_PIN2, P19 NVCC_LCD, P20 DISP0_DAT4, P21 DISP0_DAT3, P22 DISP0_DAT1, P23 DISP0_DAT2, P24 DISP0_DAT0, P25 DI0_PIN4, R20 DISP0_DAT13, R21 DISP0_DAT10, R22 DISP0_DAT8, R23 DISP0_DAT6, R24 DISP0_DAT7, R25 DISP0_DAT5, T20 DISP0_DAT21, T21 DISP0_DAT16, T22 DISP0_DAT15, T23 DISP0_DAT11, T24 DISP0_DAT12, T25 DISP0_DAT9, U22 DISP0_DAT20, U23 DISP0_DAT19, U24 DISP0_DAT17, U25 DISP0_DAT14, V24 DISP0_DAT22, V25 DISP0_DAT18, W24 DISP0_DAT23
part H pins: C25 EIM_D16, D24 EIM_D18, D25 EIM_D23, E22 EIM_EB2, E23 EIM_D22, E24 EIM_D26, E25 EIM_D27, F21 EIM_D17, F22 EIM_D24, F23 EIM_EB3, F24 EIM_A22, F25 EIM_A24, G20 EIM_D20, G21 EIM_D19, G22 EIM_D25, G23 EIM_D28, G24 EIM_A17, G25 EIM_A19, H19 EIM_A25, H20 EIM_D21, H21 EIM_D31, H22 EIM_A20, H23 EIM_A21, H24 EIM_CS0, H25 EIM_A16, J19 EIM_D29, J20 EIM_D30, J21 EIM_A23, J22 EIM_A18, J23 EIM_CS1, J24 EIM_OE, J25 EIM_DA1, K19 NVCC_EIM0, K20 EIM_RW, K21 EIM_EB0, K22 EIM_LBA, K23 EIM_EB1, K24 EIM_DA3, K25 EIM_DA6, L19 NVCC_EIM1, L20 EIM_DA0, L21 EIM_DA2, L22 EIM_DA4, L23 EIM_DA5, L24 EIM_DA8, L25 EIM_DA7, M19 NVCC_EIM2, M20 EIM_DA11, M21 EIM_DA9, M22 EIM_DA10, M23 EIM_DA13, M24 EIM_DA12, M25 EIM_WAIT, N22 EIM_BCLK, N23 EIM_DA14, N24 EIM_DA15
part I pins: R19 NVCC_ENET, U20 ENET_TXD0, U21 ENET_CRS_DV, V20 ENET_MDC, V21 ENET_TX_EN, V22 ENET_REF_CLK, V23 ENET_MDIO, W20 ENET_TXD1, W21 ENET_RXD0, W22 ENET_RXD1, W23 ENET_RX_ER
part J pins: P5 GPIO_19, P6 GPIO_18, P7 NVCC_GPIO, R1 GPIO_17, R2 GPIO_16, R3 GPIO_7, R4 GPIO_5, R5 GPIO_8, R6 GPIO_4, R7 GPIO_3, T1 GPIO_2, T2 GPIO_9, T3 GPIO_6, T4 GPIO_1, T5 GPIO_0, T6 KEY_COL4, T7 KEY_ROW3, U5 KEY_COL3, U6 KEY_ROW1, U7 KEY_COL1, V5 KEY_ROW4, V6 KEY_ROW0, W4 KEY_ROW2, W5 KEY_COL0, W6 KEY_COL2
part K pins: J1 HDMI_REF, J3 HDMI_D1M, J4 HDMI_D1P, J5 HDMI_CLKM, J6 HDMI_CLKP, K1 HDMI_HPD, K2 HDMI_DDCCEC, K3 HDMI_D2M, K4 HDMI_D2P, K5 HDMI_D0M, K6 HDMI_D0P, L7 HDMI_VP, M7 HDMI_VPH
part L pins: C2 JTAG_TRSTB, C3 JTAG_TMS, G5 JTAG_TDI, G6 JTAG_TDO, H5 JTAG_TCK, H6 JTAG_MOD, J7 NVCC_JTAG
part M pins: AA1 LVDS1_TX1_P, AA2 LVDS1_TX1_N, AA3 LVDS1_TX3_N, AA4 LVDS1_TX3_P, AB1 LVDS1_TX2_N, AB2 LVDS1_TX2_P, U1 LVDS0_TX0_P, U2 LVDS0_TX0_N, U3 LVDS0_TX1_P, U4 LVDS0_TX1_N, V1 LVDS0_TX2_P, V2 LVDS0_TX2_N, V3 LVDS0_CLK_P, V4 LVDS0_CLK_N, V7 NVCC_LVDS2P5, W1 LVDS0_TX3_P, W2 LVDS0_TX3_N, Y1 LVDS1_TX0_N, Y2 LVDS1_TX0_P, Y3 LVDS1_CLK_N, Y4 LVDS1_CLK_P
part N pins: A16 NANDF_ALE, A17 NANDF_CS2, A18 NANDF_D0, A19 NANDF_D4, A20 SD4_DAT3, B16 NANDF_RB0, B17 SD4_CMD, B18 NANDF_D5, B19 SD4_DAT1, B20 SD4_DAT6, C15 NANDF_CLE, C16 NANDF_CS1, C17 NANDF_D1, C18 NANDF_D7, C19 SD4_DAT5, D16 NANDF_CS3, D17 NANDF_D3, D18 SD4_DAT0, D19 SD4_DAT7, E15 NANDF_WP_B, E16 SD4_CLK, E17 NANDF_D6, E18 SD4_DAT4, F15 NANDF_CS0, F16 NANDF_D2, F17 SD4_DAT2, G15 NVCC_NANDF
part O pins: A2 PCIE_REXT, A3 PCIE_TXM, B1 PCIE_RXM, B2 PCIE_RXP, B3 PCIE_TXP, G7 PCIE_VPH, G8 PCIE_VPTX, H7 PCIE_VP
part P pins: A6 USB_OTG_DP, B6 USB_OTG_DN, B8 USB_OTG_CHD_B, D10 USB_H1_VBUS, E9 USB_OTG_VBUS, E10 USB_H1_DP, F10 USB_H1_DN
part Q pins: A24 RGMII_TD3, B23 RGMII_RD1, B24 RGMII_RD2, B25 RGMII_RXC, C22 RGMII_TD0, C23 RGMII_TX_CTL, C24 RGMII_RD0, D21 RGMII_TXC, D22 RGMII_RX_CTL, D23 RGMII_RD3, E21 RGMII_TD2, F20 RGMII_TD1, G18 NVCC_RGMII
part R pins: A21 SD1_DAT0, B21 SD1_CMD, C20 SD1_DAT1, D20 SD1_CLK, E19 SD1_DAT2, F18 SD1_DAT3, G16 NVCC_SD1
part S pins: A22 SD2_DAT0, A23 SD2_DAT2, B22 SD2_DAT3, C21 SD2_CLK, E20 SD2_DAT1, F19 SD2_CMD, G17 NVCC_SD2
part T pins: A15 SD3_DAT2, B13 SD3_CMD, B15 SD3_DAT3, C13 SD3_DAT5, D13 SD3_DAT4, D14 SD3_CLK, D15 SD3_RST, E13 SD3_DAT6, E14 SD3_DAT0, F13 SD3_DAT7, F14 SD3_DAT1, G14 NVCC_SD3
part U pins: AA5 DRAM_D3, AA6 DRAM_D10, AA8 DRAM_D17, AA9 DRAM_D23, AA11 DRAM_SDCKE1, AA12 DRAM_A14, AA14 DRAM_A2, AA15 DRAM_A10, AA17 DRAM_D32, AA18 DRAM_D33, AA20 DRAM_D45, AA21 DRAM_D57, AA23 DRAM_D61, AA24 DRAM_SDQS7_B, AA25 DRAM_SDQS7, AB4 DRAM_D6, AB5 DRAM_D12, AB6 DRAM_D14, AB7 DRAM_D16, AB8 DRAM_DQM2, AB9 DRAM_D18, AB10 DRAM_SDQS3_B, AB11 DRAM_D27, AB12 DRAM_SDBA2, AB13 DRAM_A8, AB14 DRAM_A1, AB15 DRAM_RAS, AB16 DRAM_SDWE, AB17 DRAM_SDODT1, AB18 DRAM_DQM4, AB19 DRAM_D38, AB20 DRAM_D41, AB21 DRAM_D42, AB22 DRAM_D52, AB23 DRAM_D60, AB25 DRAM_D56, AC1 DRAM_D4, AC2 DRAM_VREF, AC3 DRAM_DQM0, AC4 DRAM_D2, AC5 DRAM_D13, AC6 DRAM_DQM1, AC7 DRAM_D15, AC8 DRAM_D22, AC9 DRAM_D28, AC10 DRAM_SDQS3, AC11 DRAM_D31, AC12 DRAM_A11, AC13 DRAM_A6, AC14 DRAM_A0, AC15 DRAM_SDBA0, AC16 DRAM_SDODT0, AC17 DRAM_A13, AC18 DRAM_D34, AC19 DRAM_D39, AC20 DRAM_DQM5, AC21 DRAM_D47, AC22 DRAM_D48, AC23 DRAM_D53, AC24 DRAM_D51, AC25 DRAM_D55, AD1 DRAM_D5, AD2 DRAM_D0, AD3 DRAM_SDQS0_B, AD5 DRAM_D8, AD6 DRAM_SDQS1, AD8 DRAM_SDQS2, AD9 DRAM_D29, AD11 DRAM_D30, AD12 DRAM_A12, AD14 DRAM_SDCLK_1, AD15 DRAM_SDCLK_0, AD17 DRAM_CS1, AD18 DRAM_SDQS4, AD20 DRAM_SDQS5, AD21 DRAM_D43, AD23 DRAM_SDQS6, AD24 DRAM_DQM6, AD25 DRAM_D54, AE2 DRAM_D1, AE3 DRAM_SDQS0, AE4 DRAM_D7, AE5 DRAM_D9, AE6 DRAM_SDQS1_B, AE7 DRAM_D11, AE8 DRAM_SDQS2_B, AE9 DRAM_D24, AE10 DRAM_DQM3, AE11 DRAM_D26, AE12 DRAM_A9, AE13 DRAM_A5, AE14 DRAM_SDCLK_1_B, AE15 DRAM_SDCLK_0_B, AE16 DRAM_CAS, AE17 ZQPAD, AE18 DRAM_SDQS4_B, AE19 DRAM_D35, AE20 DRAM_SDQS5_B, AE21 DRAM_D46, AE22 DRAM_D49, AE23 DRAM_SDQS6_B, AE24 DRAM_D50, R18 NVCC_DRAM, T18 NVCC_DRAM hidden, U18 NVCC_DRAM hidden, V9 NVCC_DRAM hidden, V10 NVCC_DRAM hidden, V11 NVCC_DRAM hidden, V12 NVCC_DRAM hidden, V13 NVCC_DRAM hidden, V14 NVCC_DRAM hidden, V15 NVCC_DRAM hidden, V16 NVCC_DRAM hidden, V17 NVCC_DRAM hidden, V18 NVCC_DRAM hidden, W14 DRAM_A4, W25 DRAM_D63, Y6 DRAM_RESET, Y7 DRAM_D20, Y8 DRAM_D21, Y9 DRAM_D19, Y10 DRAM_D25, Y11 DRAM_SDCKE0, Y12 DRAM_A15, Y13 DRAM_A7, Y14 DRAM_A3, Y15 DRAM_SDBA1, Y16 DRAM_CS0, Y17 DRAM_D36, Y18 DRAM_D37, Y19 DRAM_D40, Y20 DRAM_D44, Y21 DRAM_DQM7, Y22 DRAM_D59, Y23 DRAM_D62, Y25 DRAM_D58
part V pins: A7 XTALI, B7 XTALO
part W pins: C9 RTC_XTALO, D9 RTC_XTALI
part X pins: A12 SATA_TXP, A14 SATA_RXM, B12 SATA_TXM, B14 SATA_RXP, C14 SATA_REXT, G12 SATA_VPH, G13 SATA_VP
part A text: Power Management
part B text: Factory (NXP only)
part C text: Boot/Power Management
part D text: Clock
part E text: MIPI Camera
part F text: Camera
part G text: LCD Display
part H text: External memory
part I text: 10/100-Mbit Ethernet
part J text: GPIO
part K text: HDMI Display
part L text: JTAG Debug
part M text: LVDS Display
part N text: NAND Flash; SD/MMC
part O text: PCIe 2.0
part P text: HS USB2.0 Host; HS USB2.0 OTG
part Q text: Gigabit Ethernet
part R text: SD/MMC
part S text: SD/MMC
part T text: SD/MMC
part U text: DDR3/DDR3L/LPDDR2
part V text: Crystal Oscillator
part W text: RTC
part X text: SATA